# EAGLE library part 691243400010 (library Wurth_Connectors_WR-TBL Rising Cage Clamp)
WR-TBL Serie 2434 - 7.62 mm Vertical Entry Modular w. Rising Cage Clamp KIND PROPERTIES Pitch 7.62 mm MATERIAL PROPERTIES Insulator Material PA66 Insulator Flammability Rating UL94 V-0 Contact Material Copper Alloy Contact Plating Tin over Nickel Terminal Screw Material Steel Terminal Screw Plating Zinc Wire Guard Material Copper Alloy GENERAL INFORMATION Operating Temperature -30 up to +120 °C Compliance RoHS ELECTRICAL PROPERTIES IR UL 10 A IR VDE 10 A Working Voltage [UL] 300 V (AC) Working Voltage [VDE] 450 V (AC) Withstanding Voltage [UL] 1600 V (AC) Withstanding Voltage [cULus] 1600 V (AC) Withstanding Voltage [VDE] 2500 V (AC) Contact Resistance [UL] 20 mΩ Contact Resistance [cULus] 20 mΩ Contact Resistance [VDE] 20 mΩ MECHANICAL PROPERTIES Wire Strip Length 6 Screw M2 CERTIFICATION cULus Approval E150931 VDE Approval 40015434 PACKAGING PROPERTIES Packaging Box <https://www.we-online.com/catalog/media/o60875v209%20Family_TBL_7_62_2434_HORIZONTAL_CABLE_ENTRY_W_RISING_CLAMP_6912434000xx.jpg> Details see: https://www.we-online.com/catalog/en/TBL_7_62_2434_HORIZONTAL_CABLE_ENTRY_W_RISING_CLAMP_6912434000xx/ Updated by Ella Wu 2019-11-27 2019(C) Wurth Elektronik
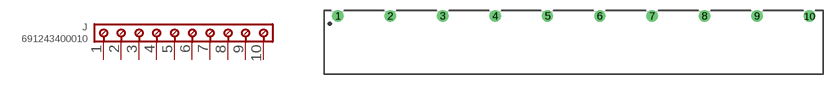
[diagram p126: symbol with the pads of 691243400010; footprint 691243400010]

Designator prefix J

## 691243400010 (IR-UL: 10A; IR-VDE: 10A; PART-NUMBER: 691243400010; PINS: 10; PITCH: 7.62mm; TYPE: Vertical; WIRE: 16 to 30 (AWG) 1.31 to 0.0509 (mm²); WORKING-VOLTAGE-UL: 300V (AC); WORKING-VOLTAGE-VDE: 450V (AC))  [691243400010]
1  1  pas
2  2  pas
3  3  pas
4  4  pas
5  5  pas
6  6  pas
7  7  pas
8  8  pas
9  9  pas
10  10  pas

## Footprint 691243400010 (pad centres in mm)
WR-TBL Serie 2434 - 7.62 mm Vertical Entry Modular w. Rising Cage Clamp Max Height =7.3mm , Pitch 7.62mm , 10 Pins
drill 1.1: 1 -34.29,0; 2 -26.67,0; 3 -19.05,0; 4 -11.43,0; 5 -3.81,0; 6 3.81,0; 7 11.43,0; 8 19.05,0; 9 26.67,0; 10 34.29,0